# Altium schematic symbol library SGM7SZ04.A1.SchLib: 1 symbol
Pins are listed as number, name and electrical type; pins without a type are passive.

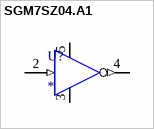
[diagram p0: symbol SGM7SZ04.A1]

## SGM7SZ04.A1
designator U?
pins: 2 A (in), 3 GND (power), 4 Y (out), 5 VCC (power)